# EAGLE library part IC_ACS712 (library akita)
Allegro ACS712, current sensor
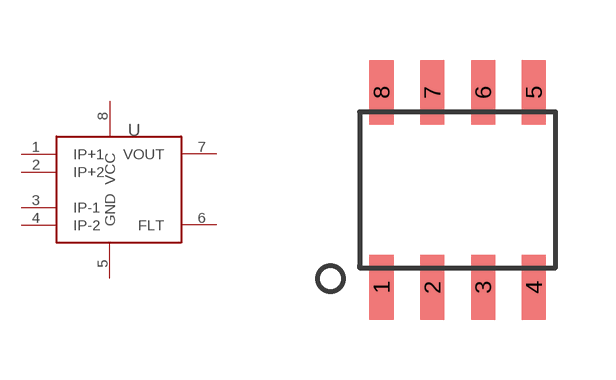
[diagram p202: symbol with the pads of SOP8; footprint SOP8]

Designator prefix U

## IC_ACS712  [SOP8]
1  IP+1
2  IP+2
3  IP-1
4  IP-2
5  GND
6  FLT
7  VOUT
8  VCC

## Footprint SOP8 (pad centres in mm)
smd 0.6 x 1.62: 1 -1.905,-2.44; 2 -0.635,-2.44; 3 0.635,-2.44; 4 1.905,-2.44; 5 1.905,2.44; 6 0.635,2.44; 7 -0.635,2.44; 8 -1.905,2.44